# Altium footprint library hirose-connector.PcbLib: 6 footprints
Each footprint in its own frame and in the unit in brackets; x right, y up, seen from the top. Pads: shape width x height; smd on the part's side, far side on the other; paste and mask are expansions set on the pad; w line width, h text height; cw(c..) or ccw(c..) is an arc to the next point about the centre after c.
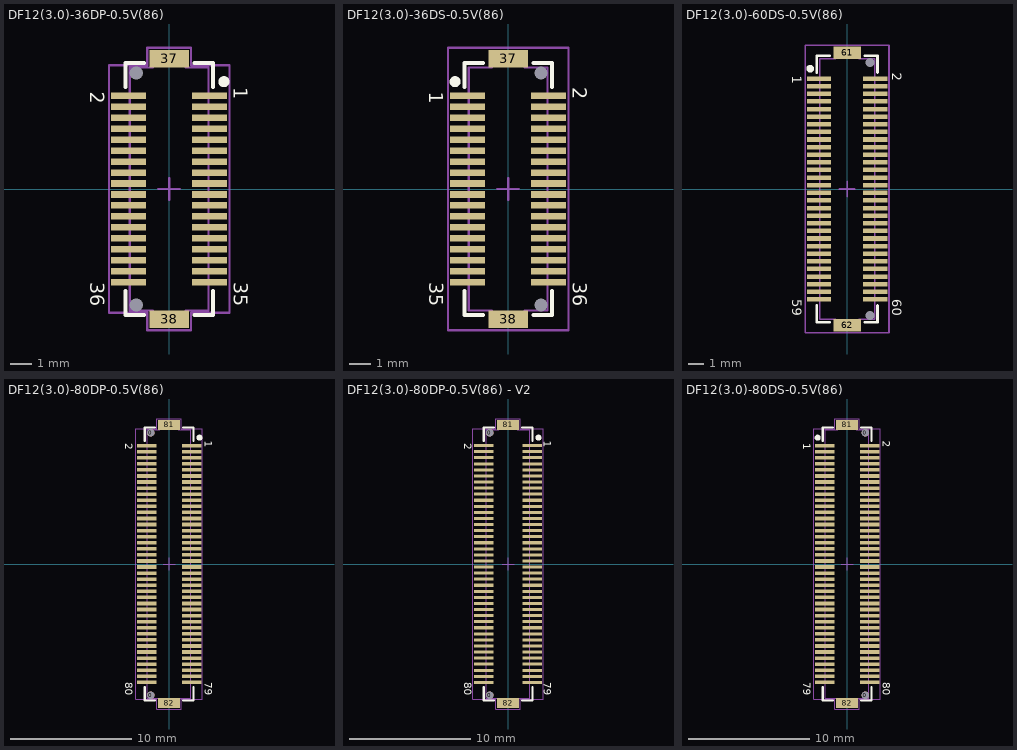
[diagram p0: the footprints below, top view; thin cyan lines are the x and y axes]

## DF12(3.0)-36DP-0.5V(86) [mm] "0.5mm Pitch SMT Board to Board Connector, 36 Positions, Metal Fitting"
height 2.3
pads (40):
  round 0 hole 0.6 unplated: 0(-1.5,-5.3) 0(-1.5,5.3)
  rect 1.6x0.3 smd paste-0.025: 1(1.85,4.25) 2(-1.85,4.25) 3(1.85,3.75) 4(-1.85,3.75) 5(1.85,3.25) 6(-1.85,3.25) 7(1.85,2.75) 8(-1.85,2.75) 9(1.85,2.25) 10(-1.85,2.25) 11(1.85,1.75) 12(-1.85,1.75) 13(1.85,1.25) 14(-1.85,1.25) 15(1.85,0.75) 16(-1.85,0.75) 17(1.85,0.25) 18(-1.85,0.25) 19(1.85,-0.25) 20(-1.85,-0.25) 21(1.85,-0.75) 22(-1.85,-0.75) 23(1.85,-1.25) 24(-1.85,-1.25) 25(1.85,-1.75) 26(-1.85,-1.75) 27(1.85,-2.25) 28(-1.85,-2.25) 29(1.85,-2.75) 30(-1.85,-2.75) 31(1.85,-3.25) 32(-1.85,-3.25) 33(1.85,-3.75) 34(-1.85,-3.75) 35(1.85,-4.25) 36(-1.85,-4.25)
  rect 1.8x0.8 smd: 37(0,5.95) 38(0,-5.95)
Top Overlay:
  circle w0.25: c2.5,4.9 r0.125
  lines w0.18: -2,-4.65 -2,-5.75 -1.15,-5.75 ; -2,4.65 -2,5.75 -1.15,5.75 ; 1.15,-5.75 2,-5.75 2,-4.65 ; 1.15,5.75 2,5.75 2,4.65
  text "36" at -3.6,-4.25 h0.64
  text "35" at 2.95,-4.25 h0.64
  text "1" at 2.95,4.65 h0.64
  text "2" at -3.6,4.45 h0.64
Mechanical 13:
  lines w0.1: -0.5,0 0.5,0 ; 0,-0.5 0,0.5 ; -1.8,-5.55 -0.75,-5.55 -0.75,-6 0.75,-6 0.75,-5.55 1.8,-5.55 1.8,5.55 0.75,5.55 0.75,6 -0.75,6 -0.75,5.55 -1.8,5.55 -1.8,-5.55
Mechanical 15:
  lines w0.1: -2.75,-5.65 -2.75,5.65 -1.825,5.65 -1,5.65 -1,6.45 1,6.45 1,5.65 1.825,5.65 2.75,5.65 2.75,-5.65 1.825,-5.65 1,-5.65 1,-6.45 -1,-6.45 -1,-5.65 -1.825,-5.65 -2.75,-5.65
  text ".Designator" at 0.175,-2.225 h0.5
3D body: height 2.32, standoff -0.58, extent -2.3,-6.06 2.3,6.06

## DF12(3.0)-36DS-0.5V(86) [mm] "0.5mm Pitch SMT Board to Board Connector, 36 Positions, Metal Fitting"
height 2.5
pads (40):
  round 0 hole 0.6 unplated: 0(1.5,-5.3) 0(1.5,5.3)
  rect 1.6x0.3 smd paste-0.025: 1(-1.85,4.25) 2(1.85,4.25) 3(-1.85,3.75) 4(1.85,3.75) 5(-1.85,3.25) 6(1.85,3.25) 7(-1.85,2.75) 8(1.85,2.75) 9(-1.85,2.25) 10(1.85,2.25) 11(-1.85,1.75) 12(1.85,1.75) 13(-1.85,1.25) 14(1.85,1.25) 15(-1.85,0.75) 16(1.85,0.75) 17(-1.85,0.25) 18(1.85,0.25) 19(-1.85,-0.25) 20(1.85,-0.25) 21(-1.85,-0.75) 22(1.85,-0.75) 23(-1.85,-1.25) 24(1.85,-1.25) 25(-1.85,-1.75) 26(1.85,-1.75) 27(-1.85,-2.25) 28(1.85,-2.25) 29(-1.85,-2.75) 30(1.85,-2.75) 31(-1.85,-3.25) 32(1.85,-3.25) 33(-1.85,-3.75) 34(1.85,-3.75) 35(-1.85,-4.25) 36(1.85,-4.25)
  rect 1.8x0.8 smd: 37(0,5.95) 38(0,-5.95)
Top Overlay:
  circle w0.25: c-2.425,4.9 r0.125
  lines w0.18: -2,-4.65 -2,-5.75 -1.15,-5.75 ; -2,4.65 -2,5.75 -1.15,5.75 ; 1.15,-5.75 2,-5.75 2,-4.65 ; 1.15,5.75 2,5.75 2,4.65
  text "1" at -3.6,4.45 h0.64
  text "2" at 2.95,4.65 h0.64
  text "36" at 2.95,-4.25 h0.64
  text "35" at -3.6,-4.25 h0.64
Mechanical 13:
  lines w0.1: -0.5,0 0.5,0 ; 0,-0.5 0,0.5 ; -1.8,-5.55 -1.8,5.55 -0.75,5.55 -0.75,6 0.75,6 0.75,5.55 1.8,5.55 1.8,-5.55 0.75,-5.55 0.75,-6 -0.75,-6 -0.75,-5.55 -1.8,-5.55
Mechanical 15:
  lines w0.1: -2.75,-6.45 2.75,-6.45 2.75,6.45 -2.75,6.45 -2.75,-6.45
  text ".Designator" at 0.175,-2.275 h0.5
3D body: height 2.22, standoff -0.58, extent -2.3,-6.05 2.3,6.05

## DF12(3.0)-60DS-0.5V(86) [mm] "0.5mm Pitch SMT Board to Board Connector, 60 Positions, Metal Fitting"
height 2.5
pads (64):
  round 0 hole 0.6 unplated: 0(1.5,-8.3) 0(1.5,8.3)
  rect 1.6x0.3 smd: 1(-1.85,7.25) 2(1.85,7.25) 3(-1.85,6.75) 4(1.85,6.75) 5(-1.85,6.25) 6(1.85,6.25) 7(-1.85,5.75) 8(1.85,5.75) 9(-1.85,5.25) 10(1.85,5.25) 11(-1.85,4.75) 12(1.85,4.75) 13(-1.85,4.25) 14(1.85,4.25) 15(-1.85,3.75) 16(1.85,3.75) 17(-1.85,3.25) 18(1.85,3.25) 19(-1.85,2.75) 20(1.85,2.75) 21(-1.85,2.25) 22(1.85,2.25) 23(-1.85,1.75) 24(1.85,1.75) 25(-1.85,1.25) 26(1.85,1.25) 27(-1.85,0.75) 28(1.85,0.75) 29(-1.85,0.25) 30(1.85,0.25) 31(-1.85,-0.25) 32(1.85,-0.25) 33(-1.85,-0.75) 34(1.85,-0.75) 35(-1.85,-1.25) 36(1.85,-1.25) 37(-1.85,-1.75) 38(1.85,-1.75) 39(-1.85,-2.25) 40(1.85,-2.25) 41(-1.85,-2.75) 42(1.85,-2.75) 43(-1.85,-3.25) 44(1.85,-3.25) 45(-1.85,-3.75) 46(1.85,-3.75) 47(-1.85,-4.25) 48(1.85,-4.25) 49(-1.85,-4.75) 50(1.85,-4.75) 51(-1.85,-5.25) 52(1.85,-5.25) 53(-1.85,-5.75) 54(1.85,-5.75) 55(-1.85,-6.25) 56(1.85,-6.25) 57(-1.85,-6.75) 58(1.85,-6.75) 59(-1.85,-7.25) 60(1.85,-7.25)
  rect 1.8x0.8 smd: 61(0,8.95) 62(0,-8.95)
Top Overlay:
  circle w0.25: c-2.425,7.9 r0.125
  lines w0.18: -2,-7.65 -2,-8.75 -1.15,-8.75 ; -2,7.65 -2,8.75 -1.15,8.75 ; 1.15,-8.75 2,-8.75 2,-7.65 ; 1.15,8.75 2,8.75 2,7.65
  text "59" at -3.6,-7.25 h0.64
  text "60" at 2.95,-7.25 h0.64
  text "2" at 2.95,7.65 h0.64
  text "1" at -3.6,7.45 h0.64
Mechanical 13:
  lines w0.1: -0.5,0 0.5,0 ; 0,-0.5 0,0.5 ; -1.8,-8.55 -0.75,-8.55 -0.75,-9 0.75,-9 0.75,-8.55 1.8,-8.55 1.8,8.55 0.75,8.55 0.75,9 -0.75,9 -0.75,8.55 -1.8,8.55 -1.8,-8.55
Mechanical 15:
  lines w0.1: -2.75,-9.45 -2.75,9.45 2.75,9.45 2.75,-9.45 -2.75,-9.45
  text ".Designator" at 0.175,-2.275 h0.5
3D body: height 2.72, standoff -0.58, extent -2.3,-9.05 2.3,9.05

## DF12(3.0)-80DP-0.5V(86) [mm] "0.5mm Pitch SMT Board to Board Connector, 80 Positions, Metal Fitting"
height 2.3
pads (84):
  round 0.6 hole 0.6 unplated: 0(-1.5,-10.8) 0(-1.5,10.8)
  rect 1.6x0.3 smd: 1(1.85,9.75) 2(-1.85,9.75) 3(1.85,9.25) 4(-1.85,9.25) 5(1.85,8.75) 6(-1.85,8.75) 7(1.85,8.25) 8(-1.85,8.25) 9(1.85,7.75) 10(-1.85,7.75) 11(1.85,7.25) 12(-1.85,7.25) 13(1.85,6.75) 14(-1.85,6.75) 15(1.85,6.25) 16(-1.85,6.25) 17(1.85,5.75) 18(-1.85,5.75) 19(1.85,5.25) 20(-1.85,5.25) 21(1.85,4.75) 22(-1.85,4.75) 23(1.85,4.25) 24(-1.85,4.25) 25(1.85,3.75) 26(-1.85,3.75) 27(1.85,3.25) 28(-1.85,3.25) 29(1.85,2.75) 30(-1.85,2.75) 31(1.85,2.25) 32(-1.85,2.25) 33(1.85,1.75) 34(-1.85,1.75) 35(1.85,1.25) 36(-1.85,1.25) 37(1.85,0.75) 38(-1.85,0.75) 39(1.85,0.25) 40(-1.85,0.25) 41(1.85,-0.25) 42(-1.85,-0.25) 43(1.85,-0.75) 44(-1.85,-0.75) 45(1.85,-1.25) 46(-1.85,-1.25) 47(1.85,-1.75) 48(-1.85,-1.75) 49(1.85,-2.25) 50(-1.85,-2.25) 51(1.85,-2.75) 52(-1.85,-2.75) 53(1.85,-3.25) 54(-1.85,-3.25) 55(1.85,-3.75) 56(-1.85,-3.75) 57(1.85,-4.25) 58(-1.85,-4.25) 59(1.85,-4.75) 60(-1.85,-4.75) 61(1.85,-5.25) 62(-1.85,-5.25) 63(1.85,-5.75) 64(-1.85,-5.75) 65(1.85,-6.25) 66(-1.85,-6.25) 67(1.85,-6.75) 68(-1.85,-6.75) 69(1.85,-7.25) 70(-1.85,-7.25) 71(1.85,-7.75) 72(-1.85,-7.75) 73(1.85,-8.25) 74(-1.85,-8.25) 75(1.85,-8.75) 76(-1.85,-8.75) 77(1.85,-9.25) 78(-1.85,-9.25) 79(1.85,-9.75) 80(-1.85,-9.75)
  rect 1.8x0.8 smd: 81(0,11.45) 82(0,-11.45)
Top Overlay:
  circle w0.25: c2.5,10.4 r0.125
  lines w0.18: -2,-10.15 -2,-11.25 -1.15,-11.25 ; -2,10.15 -2,11.25 -1.15,11.25 ; 1.15,-11.25 2,-11.25 2,-10.15 ; 1.15,11.25 2,11.25 2,10.15
  text "2" at -3.6,9.95 h0.64
  text "1" at 2.95,10.15 h0.64
  text "79" at 2.95,-9.75 h0.64
  text "80" at -3.6,-9.75 h0.64
Mechanical 13:
  lines w0.1: -0.5,0 0.5,0 ; 0,-0.5 0,0.5 ; -1.8,-11.05 -1.8,11.05 -0.75,11.05 -0.75,11.5 0.75,11.5 0.75,11.05 1.8,11.05 1.8,-11.05 0.75,-11.05 0.75,-11.5 -0.75,-11.5 -0.75,-11.05 -1.8,-11.05
Mechanical 15:
  lines w0.1: -2.75,-11.15 -1.825,-11.15 -1,-11.15 -1,-11.95 1,-11.95 1,-11.15 1.825,-11.15 2.75,-11.15 2.75,11.15 1.825,11.15 1,11.15 1,11.95 -1,11.95 -1,11.15 -1.825,11.15 -2.75,11.15 -2.75,-11.15
  text ".Designator" at 0.175,-2.225 h0.5
3D body: height 2.32, standoff -0.58, extent -2.3,-11.55 2.3,11.57

## DF12(3.0)-80DP-0.5V(86) - V2 [mm] "0.5mm Pitch SMT Board to Board Connector, 80 Positions, Metal Fitting"
height 2.3
pads (84):
  round 0.6 hole 0.6 unplated: 0(-1.5,-10.8) 0(-1.5,10.8)
  rect 1.6x0.25 smd: 1(2,9.75) 2(-2,9.75) 3(2,9.25) 4(-2,9.25) 5(2,8.75) 6(-2,8.75) 7(2,8.25) 8(-2,8.25) 9(2,7.75) 10(-2,7.75) 11(2,7.25) 12(-2,7.25) 13(2,6.75) 14(-2,6.75) 15(2,6.25) 16(-2,6.25) 17(2,5.75) 18(-2,5.75) 19(2,5.25) 20(-2,5.25) 21(2,4.75) 22(-2,4.75) 23(2,4.25) 24(-2,4.25) 25(2,3.75) 26(-2,3.75) 27(2,3.25) 28(-2,3.25) 29(2,2.75) 30(-2,2.75) 31(2,2.25) 32(-2,2.25) 33(2,1.75) 34(-2,1.75) 35(2,1.25) 36(-2,1.25) 37(2,0.75) 38(-2,0.75) 39(2,0.25) 40(-2,0.25) 41(2,-0.25) 42(-2,-0.25) 43(2,-0.75) 44(-2,-0.75) 45(2,-1.25) 46(-2,-1.25) 47(2,-1.75) 48(-2,-1.75) 49(2,-2.25) 50(-2,-2.25) 51(2,-2.75) 52(-2,-2.75) 53(2,-3.25) 54(-2,-3.25) 55(2,-3.75) 56(-2,-3.75) 57(2,-4.25) 58(-2,-4.25) 59(2,-4.75) 60(-2,-4.75) 61(2,-5.25) 62(-2,-5.25) 63(2,-5.75) 64(-2,-5.75) 65(2,-6.25) 66(-2,-6.25) 67(2,-6.75) 68(-2,-6.75) 69(2,-7.25) 70(-2,-7.25) 71(2,-7.75) 72(-2,-7.75) 73(2,-8.25) 74(-2,-8.25) 75(2,-8.75) 76(-2,-8.75) 77(2,-9.25) 78(-2,-9.25) 79(2,-9.75) 80(-2,-9.75)
  rect 1.8x0.8 smd: 81(0,11.45) 82(0,-11.45)
Top Overlay:
  circle w0.25: c2.5,10.4 r0.125
  lines w0.18: -2,-10.15 -2,-11.25 -1.15,-11.25 ; -2,10.15 -2,11.25 -1.15,11.25 ; 1.15,-11.25 2,-11.25 2,-10.15 ; 1.15,11.25 2,11.25 2,10.15
  text "80" at -3.6,-9.75 h0.64
  text "79" at 2.95,-9.75 h0.64
  text "1" at 2.95,10.15 h0.64
  text "2" at -3.6,9.95 h0.64
Mechanical 13:
  lines w0.1: -0.5,0 0.5,0 ; 0,-0.5 0,0.5 ; -1.8,-11.05 -0.75,-11.05 -0.75,-11.5 0.75,-11.5 0.75,-11.05 1.8,-11.05 1.8,11.05 0.75,11.05 0.75,11.5 -0.75,11.5 -0.75,11.05 -1.8,11.05 -1.8,-11.05
Mechanical 15:
  lines w0.1: -2.9,-11.15 -2.9,11.15 -1.825,11.15 -1,11.15 -1,11.95 1,11.95 1,11.15 1.825,11.15 2.9,11.15 2.9,-11.15 1.825,-11.15 1,-11.15 1,-11.95 -1,-11.95 -1,-11.15 -1.825,-11.15 -2.9,-11.15
  text ".Designator" at 0.175,-2.225 h0.5
3D body: height 2.32, standoff -0.58, extent -2.3,-11.55 2.3,11.57

## DF12(3.0)-80DS-0.5V(86) [mm] "0.5mm Pitch SMT Board to Board Connector, 80 Positions, Metal Fitting"
height 2.2
pads (84):
  round 0.6 hole 0.6 unplated: 0(1.5,-10.8) 0(1.5,10.8)
  rect 1.6x0.3 smd: 1(-1.85,9.75) 2(1.85,9.75) 3(-1.85,9.25) 4(1.85,9.25) 5(-1.85,8.75) 6(1.85,8.75) 7(-1.85,8.25) 8(1.85,8.25) 9(-1.85,7.75) 10(1.85,7.75) 11(-1.85,7.25) 12(1.85,7.25) 13(-1.85,6.75) 14(1.85,6.75) 15(-1.85,6.25) 16(1.85,6.25) 17(-1.85,5.75) 18(1.85,5.75) 19(-1.85,5.25) 20(1.85,5.25) 21(-1.85,4.75) 22(1.85,4.75) 23(-1.85,4.25) 24(1.85,4.25) 25(-1.85,3.75) 26(1.85,3.75) 27(-1.85,3.25) 28(1.85,3.25) 29(-1.85,2.75) 30(1.85,2.75) 31(-1.85,2.25) 32(1.85,2.25) 33(-1.85,1.75) 34(1.85,1.75) 35(-1.85,1.25) 36(1.85,1.25) 37(-1.85,0.75) 38(1.85,0.75) 39(-1.85,0.25) 40(1.85,0.25) 41(-1.85,-0.25) 42(1.85,-0.25) 43(-1.85,-0.75) 44(1.85,-0.75) 45(-1.85,-1.25) 46(1.85,-1.25) 47(-1.85,-1.75) 48(1.85,-1.75) 49(-1.85,-2.25) 50(1.85,-2.25) 51(-1.85,-2.75) 52(1.85,-2.75) 53(-1.85,-3.25) 54(1.85,-3.25) 55(-1.85,-3.75) 56(1.85,-3.75) 57(-1.85,-4.25) 58(1.85,-4.25) 59(-1.85,-4.75) 60(1.85,-4.75) 61(-1.85,-5.25) 62(1.85,-5.25) 63(-1.85,-5.75) 64(1.85,-5.75) 65(-1.85,-6.25) 66(1.85,-6.25) 67(-1.85,-6.75) 68(1.85,-6.75) 69(-1.85,-7.25) 70(1.85,-7.25) 71(-1.85,-7.75) 72(1.85,-7.75) 73(-1.85,-8.25) 74(1.85,-8.25) 75(-1.85,-8.75) 76(1.85,-8.75) 77(-1.85,-9.25) 78(1.85,-9.25) 79(-1.85,-9.75) 80(1.85,-9.75)
  rect 1.8x0.8 smd: 81(0,11.45) 82(0,-11.45)
Top Overlay:
  circle w0.25: c-2.425,10.4 r0.125
  lines w0.18: -2,-10.15 -2,-11.25 -1.15,-11.25 ; -2,10.15 -2,11.25 -1.15,11.25 ; 1.15,-11.25 2,-11.25 2,-10.15 ; 1.15,11.25 2,11.25 2,10.15
  text "79" at -3.6,-9.75 h0.64
  text "80" at 2.95,-9.75 h0.64
  text "2" at 2.95,10.15 h0.64
  text "1" at -3.6,9.95 h0.64
Mechanical 13:
  lines w0.1: -0.5,0 0.5,0 ; 0,-0.5 0,0.5 ; -1.8,-11.05 -0.75,-11.05 -0.75,-11.5 0.75,-11.5 0.75,-11.05 1.8,-11.05 1.8,11.05 0.75,11.05 0.75,11.5 -0.75,11.5 -0.75,11.05 -1.8,11.05 -1.8,-11.05
Mechanical 15:
  lines w0.1: -2.75,-11.15 -2.75,11.15 -1.825,11.15 -1,11.15 -1,11.95 1,11.95 1,11.15 1.825,11.15 2.75,11.15 2.75,-11.15 1.825,-11.15 1,-11.15 1,-11.95 -1,-11.95 -1,-11.15 -1.825,-11.15 -2.75,-11.15
  text ".Designator" at 0.175,-2.225 h0.5
3D body: height 2.22, standoff -0.58, extent -2.3,-11.55 2.3,11.55